# EAGLE library part PIC16C92*?-64 (library microchip)
MICROCONTROLLER with LCD driver
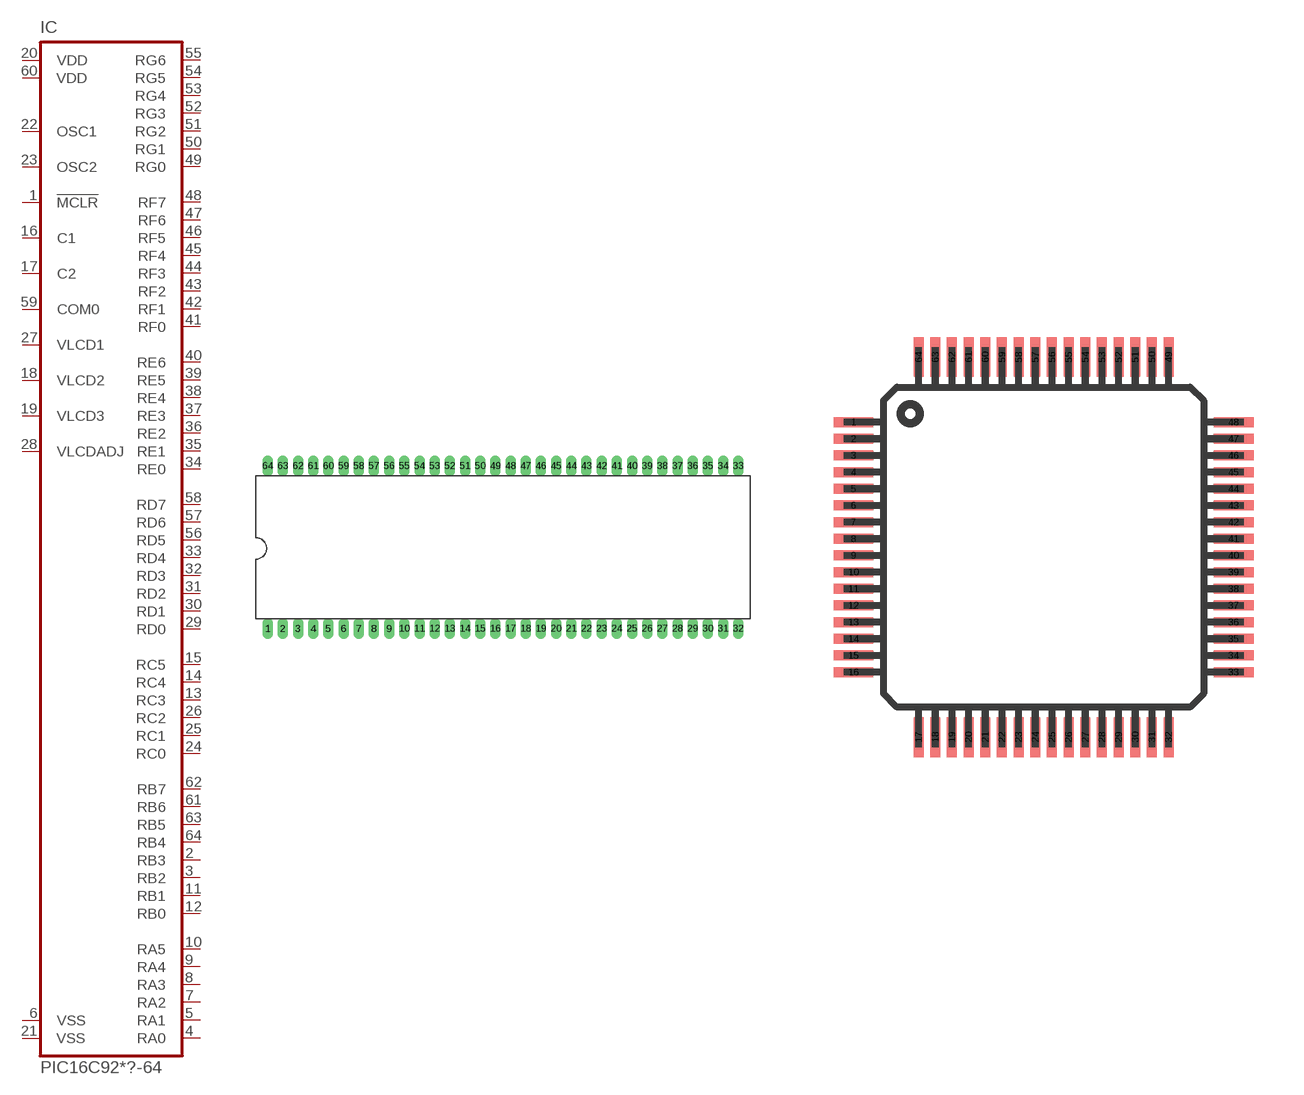
[diagram p84: symbol with the pads of DIL64; footprints DIL64, TQFP64-10X10]

Designator prefix IC

## PIC16C923PS-64 (OC_FARNELL: unknown; OC_NEWARK: unknown), PIC16C924PS-64 (OC_FARNELL: unknown; OC_NEWARK: unknown)  [DIL64]
1  !MCLR  in
2  RB3
3  RB2
4  RA0
5  RA1
6  VSS  pwr
7  RA2
8  RA3
9  RA4
10  RA5
11  RB1
12  RB0
13  RC3
14  RC4
15  RC5
16  C1  in
17  C2  in
18  VLCD2  in
19  VLCD3  in
20  VDD  pwr
21  VSS  pwr
22  OSC1  in
23  OSC2  out
24  RC0
25  RC1
26  RC2
27  VLCD1  in
28  VLCDADJ  in
29  RD0
30  RD1
31  RD2
32  RD3
33  RD4
34  RE0
35  RE1
36  RE2
37  RE3
38  RE4
39  RE5
40  RE6
41  RF0
42  RF1
43  RF2
44  RF3
45  RF4
46  RF5
47  RF6
48  RF7
49  RG0
50  RG1
51  RG2
52  RG3
53  RG4
54  RG5
55  RG6
56  RD5
57  RD6
58  RD7
59  COM0  out
60  VDD  pwr
61  RB6
62  RB7
63  RB5
64  RB4

## PIC16C923TQ-64 (MF: MICROCHIP; MPN: PIC16C923-04I/PT; OC_FARNELL: unknown; OC_NEWARK: 23C4930), PIC16C924TQ-64 (OC_FARNELL: unknown; OC_NEWARK: unknown)  [TQFP64-10X10]
1  RA4
2  RA5
3  RB1
4  RB0
5  RC3
6  RC4
7  RC5
8  C1  in
9  C2  in
10  VLCD2  in
11  VLCD3  in
12  VDD  pwr
13  VSS  pwr
14  OSC1  in
15  OSC2  out
16  RC0
17  RC1
18  RC2
19  VLCD1  in
20  VLCDADJ  in
21  RD0
22  RD1
23  RD2
24  RD3
25  RD4
26  RE0
27  RE1
28  RE2
29  RE3
30  RE4
31  RE5
32  RE6
33  RF0
34  RF1
35  RF2
36  RF3
37  RF4
38  RF5
39  RF6
40  RF7
41  RG0
42  RG1
43  RG2
44  RG3
45  RG4
46  RG5
47  RG6
48  RD5
49  RD6
50  RD7
51  COM0  out
52  VDD  pwr
53  RB6
54  RB7
55  RB5
56  RB4
57  !MCLR  in
58  RB3
59  RB2
60  RA0
61  RA1
62  VSS  pwr
63  RA2
64  RA3

## Footprint DIL64 (pad centres in mm)
Dual In Line package type P
drill 0.711 long: 1 -27.559,-9.525; 2 -25.781,-9.525; 3 -24.003,-9.525; 4 -22.225,-9.525; 5 -20.447,-9.525; 6 -18.669,-9.525; 7 -16.891,-9.525; 8 -15.113,-9.525; 9 -13.335,-9.525; 10 -11.557,-9.525; 11 -9.779,-9.525; 12 -8.001,-9.525; 13 -6.223,-9.525; 14 -4.445,-9.525; 15 -2.667,-9.525; 16 -0.889,-9.525; 17 0.889,-9.525; 18 2.667,-9.525; 19 4.445,-9.525; 20 6.223,-9.525; 21 8.001,-9.525; 22 9.779,-9.525; 23 11.557,-9.525; 24 13.335,-9.525; 25 15.113,-9.525; 26 16.891,-9.525; 27 18.669,-9.525; 28 20.447,-9.525; 29 22.225,-9.525; 30 24.003,-9.525; 31 25.781,-9.525; 32 27.559,-9.525; 33 27.559,9.525; 34 25.781,9.525; 35 24.003,9.525; 36 22.225,9.525; 37 20.447,9.525; 38 18.669,9.525; 39 16.891,9.525; 40 15.113,9.525; 41 13.335,9.525; 42 11.557,9.525; 43 9.779,9.525; 44 8.001,9.525; 45 6.223,9.525; 46 4.445,9.525; 47 2.667,9.525; 48 0.889,9.525; 49 -0.889,9.525; 50 -2.667,9.525; 51 -4.445,9.525; 52 -6.223,9.525; 53 -8.001,9.525; 54 -9.779,9.525; 55 -11.557,9.525; 56 -13.335,9.525; 57 -15.113,9.525; 58 -16.891,9.525; 59 -18.669,9.525; 60 -20.447,9.525; 61 -22.225,9.525; 62 -24.003,9.525; 63 -25.781,9.525; 64 -27.559,9.525

## Footprint TQFP64-10X10 (pad centres in mm)
Thin Quad Flat Pack package type TQ
smd 1.2 x 0.3: 1 -5.7,3.75; 2 -5.7,3.25; 3 -5.7,2.75; 4 -5.7,2.25; 5 -5.7,1.75; 6 -5.7,1.25; 7 -5.7,0.75; 8 -5.7,0.25; 9 -5.7,-0.25; 10 -5.7,-0.75; 11 -5.7,-1.25; 12 -5.7,-1.75; 13 -5.7,-2.25; 14 -5.7,-2.75; 15 -5.7,-3.25; 16 -5.7,-3.75; 33 5.7,-3.75; 34 5.7,-3.25; 35 5.7,-2.75; 36 5.7,-2.25; 37 5.7,-1.75; 38 5.7,-1.25; 39 5.7,-0.75; 40 5.7,-0.25; 41 5.7,0.25; 42 5.7,0.75; 43 5.7,1.25; 44 5.7,1.75; 45 5.7,2.25; 46 5.7,2.75; 47 5.7,3.25; 48 5.7,3.75
smd 0.3 x 1.2: 17 -3.75,-5.7; 18 -3.25,-5.7; 19 -2.75,-5.7; 20 -2.25,-5.7; 21 -1.75,-5.7; 22 -1.25,-5.7; 23 -0.75,-5.7; 24 -0.25,-5.7; 25 0.25,-5.7; 26 0.75,-5.7; 27 1.25,-5.7; 28 1.75,-5.7; 29 2.25,-5.7; 30 2.75,-5.7; 31 3.25,-5.7; 32 3.75,-5.7; 49 3.75,5.7; 50 3.25,5.7; 51 2.75,5.7; 52 2.25,5.7; 53 1.75,5.7; 54 1.25,5.7; 55 0.75,5.7; 56 0.25,5.7; 57 -0.25,5.7; 58 -0.75,5.7; 59 -1.25,5.7; 60 -1.75,5.7; 61 -2.25,5.7; 62 -2.75,5.7; 63 -3.25,5.7; 64 -3.75,5.7